# Altium footprint library 基于STM32的DDS信号源电路.PcbLib: 18 footprints (part 1 of 2)
Each footprint in its own frame and in the unit in brackets; x right, y up, seen from the top. Pads: shape width x height; smd on the part's side, far side on the other; paste and mask are expansions set on the pad; w line width, h text height; cw(c..) or ccw(c..) is an arc to the next point about the centre after c.
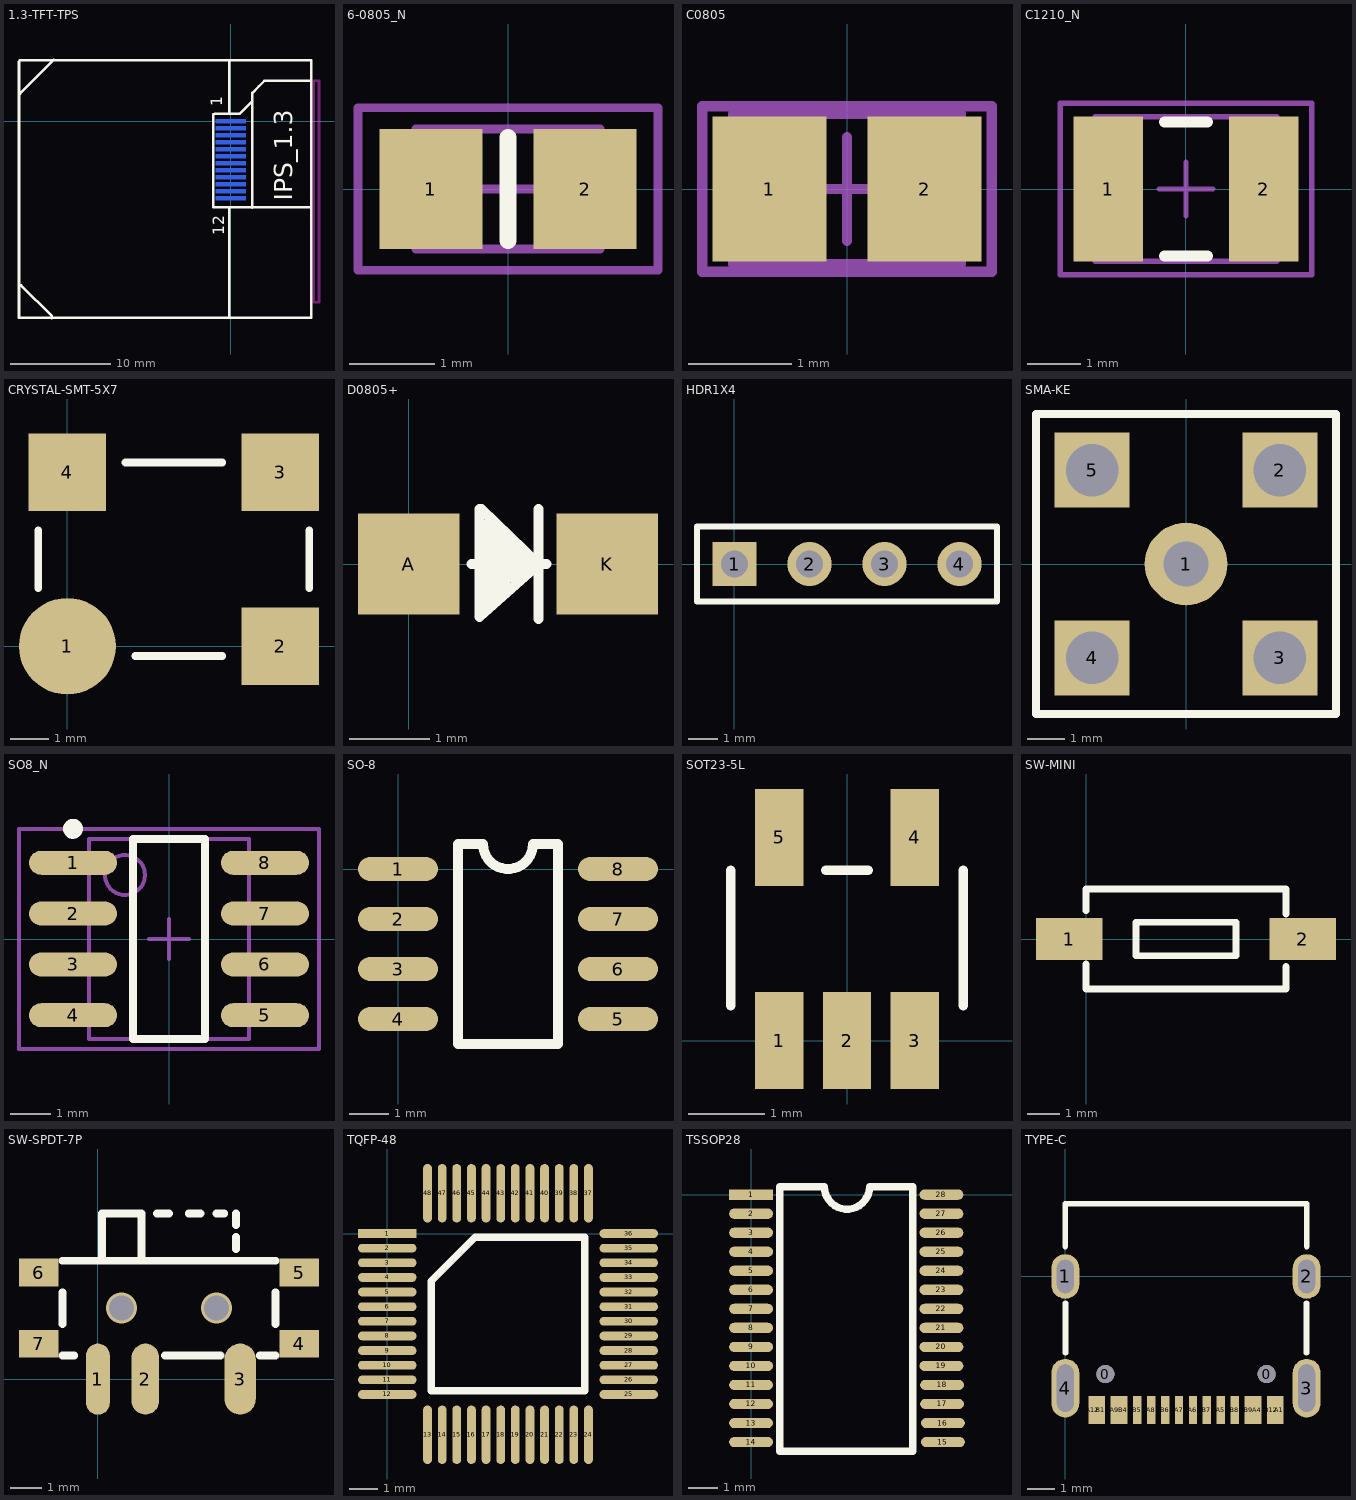
[diagram p0: the footprints below, top view; thin cyan lines are the x and y axes]

## 1.3-TFT-TPS [mm]
height 0.7
pads (12):
  rect 3x0.4 smd far side: 1(0,0) 2(0.008,-0.709) 3(0.008,-1.409) 4(0.008,-2.109) 5(0.008,-2.809) 6(0.008,-3.509) 7(0.008,-4.209) 8(0.008,-4.909) 9(0.008,-5.609) 10(0.008,-6.309) 11(0.008,-7.009) 12(0.008,-7.709)
Top Overlay:
  lines w0.254: -21.219,5.956 -21.219,-19.698 8.059,-19.698 8.059,6.108 -21.143,6.108 ; -21.074,2.755 -21.074,2.832 -17.747,6.159 ; -20.998,-16.447 -17.925,-19.52 -17.925,-19.724 ; -1.745,-8.598 -1.745,0.698 ; -1.618,0.749 0.897,0.749 2.167,2.019 2.167,2.857 2.827,3.517 3.36,4.051 3.462,4.051 ; -1.593,-8.598 1.405,-8.598 ; -0.17,-19.571 -0.17,-9.437 ; -0.17,-9.36 -0.17,-8.675 -0.094,-8.598 8.009,-8.598 ; -0.145,0.774 -0.145,5.93 ; 2.141,-8.675 2.141,2.73 ; 3.462,4.076 8.034,4.076
  text "12" at -0.653,-11.418 h1.14
  text "1" at -0.831,1.511 h1.14
  text "IPS_1.3" at 6.18,-7.938 h1.82
Keep-Out Layer:
  lines w0.254: 8.339,-18.123 8.339,4.051 8.847,4.051 8.847,-18.123 8.339,-18.123

## 6-0805_N [mm] "Chip Resistor, Body 2.0x1.2mm, IPC Medium Density"
height 0.7
pads (2):
  rect 1.2x1.4 smd: 1(-0.9,0) 2(0.9,0)
Top Overlay:
  lines w0.2: 0,-0.6 0,0.6
Mechanical 13:
  lines w0.1: -1.075,-0.7 1.075,-0.7 1.075,0.7 -1.075,0.7 -1.075,-0.7
Mechanical 15:
  lines w0.1: -0.5,0 0.5,0 ; 0,-0.5 0,0.5 ; -1.75,-0.95 1.75,-0.95 1.75,0.95 -1.75,0.95 -1.75,-0.95
3D body: height 0.7, standoff 0, extent -1.075,-0.7 1.075,0.7

## C0805 [mm] "Chip Capacitor, Body 2.0x1.3mm, IPC High Density"
height 1.4
pads (2):
  rect 1.1x1.4 smd: 1(-0.75,0) 2(0.75,0)
Mechanical 13:
  lines w0.1: -1.1,-0.725 1.1,-0.725 1.1,0.725 -1.1,0.725 -1.1,-0.725
Mechanical 15:
  lines w0.1: -0.5,0 0.5,0 ; 0,-0.5 0,0.5 ; -1.4,-0.8 1.4,-0.8 1.4,0.8 -1.4,0.8 -1.4,-0.8
3D body: height 1.4, standoff 0, extent -1.1,-0.725 1.1,0.725

## C1210_N [mm] "Chip Capacitor, Body 3.2x2.5mm, IPC Medium Density"
height 1.5
pads (2):
  rect 1.3x2.7 smd: 1(-1.45,0) 2(1.45,0)
Top Overlay:
  lines w0.2: -0.4,-1.25 0.4,-1.25 ; -0.4,1.25 0.4,1.25
Mechanical 13:
  lines w0.1: -1.7,-1.35 -1.7,1.35 1.7,1.35 1.7,-1.35 -1.7,-1.35
Mechanical 15:
  lines w0.1: -0.5,0 0.5,0 ; 0,-0.5 0,0.5 ; -2.35,-1.6 -2.35,1.6 2.35,1.6 2.35,-1.6 -2.35,-1.6
3D body: height 1.5, standoff 0, extent -1.7,-1.35 1.7,1.35

## CRYSTAL-SMT-5X7 [mil]
height 27.56
pads (4):
  round 100 smd: 1(0,0)
  rect 80x80 smd: 2(220,0) 3(220,180) 4(0,180)
Top Overlay:
  lines w8: -30,60 -30,120 ; 60,190 160,190 ; 70,-10 160,-10 ; 250,60 250,120

## D0805+ [mil]
height 27.56
pads (2):
  rect 50x50 smd: A(0,0) K(98,0)
Top Overlay:
  rectangle: 36,-9 56,10
  rectangle: 37,-14 50,-8
  rectangle: 36,6 43,22
  rectangle: 42,-1 47,18
  rectangle: 36,-22 43,-12
  rectangle: 54,-4 61,6
  rectangle: 46,7 50,14
  rectangle: 41,-17 45,-12
  lines w5: 31,0 33,0 ; 35,27 35,-26 64,0 36,27 ; 63,0 68,0 ; 64,-27 64,27

## HDR1X4 [mm] "Connector; Header; 4 Position"
height 0.7
pads (4):
  rect 1.5x1.5 hole 0.9: 1(0,0)
  round 1.5 hole 0.9: 2(2.54,0) 3(5.08,0) 4(7.62,0)
Top Overlay:
  lines w0.2: -1.27,-1.27 8.89,-1.27 8.89,1.27 -1.27,1.27 -1.27,-1.27

## SMA-KE [mm]
height 0.7
pads (5):
  round 2.2 hole 1.2: 1(0,0)
  rect 2x2 hole 1.4: 2(2.5,2.5) 3(2.5,-2.5) 4(-2.5,-2.5) 5(-2.5,2.5)
Top Overlay:
  lines w0.203: -4,-4 -4,4 -2.5,4 4,4 4,-4 -4,-4

## SO8_N [mm] "SOIC, 8-Leads, Body 4.9x3.9mm, Pitch 1.27mm, IPC Medium Density"
height 1.75
pads (8):
  oval 2.2x0.6 smd: 1(-2.4,1.905) 2(-2.4,0.635) 3(-2.4,-0.635) 4(-2.4,-1.905) 5(2.4,-1.905) 6(2.4,-0.635) 7(2.4,0.635) 8(2.4,1.905)
Top Overlay:
  circle w0.25: c-2.4,2.755 r0.125
  lines w0.2: -0.9,-2.5 0.9,-2.5 0.9,2.5 -0.9,2.5 -0.9,-2.5
Mechanical 13:
  circle w0.1: c-1.1,1.6 r0.5
  lines w0.1: -2,-2.5 2,-2.5 2,2.5 -2,2.5 -2,-2.5
Mechanical 15:
  lines w0.1: -0.5,0 0.5,0 ; 0,-0.5 0,0.5 ; -3.75,-2.75 3.75,-2.75 3.75,2.75 -3.75,2.75 -3.75,-2.75
3D body: height 1.75, standoff 0, extent -2,-2.5 2,2.5

## SO-8 [mil]
height 27.56
pads (8):
  oval 80x24 smd: 1(0,0) 2(0,-50) 3(0,-100) 4(0,-150) 5(220,-150) 6(220,-100) 7(220,-50) 8(220,0)
Top Overlay:
  lines w10: 60,-175 60,25 85,25 ccw(c110,25) 135,25 160,25 160,-175 60,-175

## SOT23-5L [mil]
height 27.56
pads (5):
  rect 25x50 smd: 1(-35,0) 2(0,0) 3(35,0) 4(35,105) 5(-35,105)
Top Overlay:
  lines w5: -60,18 -60,88 ; -11,88 11,88 ; 60,18 60,88

## SW-MINI [mil]
pads (2):
  rect 80x50 smd: 1(-20,0) 2(260,0)
Top Overlay:
  lines w8: 0,-30 0,-60 240,-60 240,-33 ; 0,34 0,60 240,60 240,48 240,30 ; 60,-20 60,20 180,20 180,-20 60,-20

## SW-SPDT-7P [mil]
height 27.56
pads (7):
  oval 30x90 smd: 1(0,0)
  oval 35x90 smd: 2(60,0)
  oval 40x90 smd: 3(180,0)
  rect 50x35 smd: 4(255,45) 5(255,135) 6(-75,135) 7(-75,45)
via 150,90 diameter 39.37 hole 31.5
via 30,90 diameter 39.37 hole 31.5
Top Overlay:
  lines w10: -45,30 -30,30 ; -45,70 -45,110 ; -45,150 225,150 ; 5,155 5,210 55,210 55,150 ; 75,210 90,210 ; 85,30 155,30 ; 115,210 130,210 ; 150,210 160,210 ; 175,165 175,180 ; 175,195 175,210 ; 205,30 225,30 ; 225,70 225,110

## TQFP-48 [mil]
height 27.56
pads (48):
  rect 80x12 smd: 1(0,0)
  oval 80x12 smd: 2(0,-20) 3(0,-40) 4(0,-60) 5(0,-80) 6(0,-100) 7(0,-120) 8(0,-140) 9(0,-160) 10(0,-180) 11(0,-200) 12(0,-220) 25(330,-220) 26(330,-200) 27(330,-180) 28(330,-160) 29(330,-140) 30(330,-120) 31(330,-100) 32(330,-80) 33(330,-60) 34(330,-40) 35(330,-20) 36(330,0)
  oval 12x80 smd: 13(55,-275) 14(75,-275) 15(95,-275) 16(115,-275) 17(135,-275) 18(155,-275) 19(175,-275) 20(195,-275) 21(215,-275) 22(235,-275) 23(255,-275) 24(275,-275) 37(275,55) 38(255,55) 39(235,55) 40(215,55) 41(195,55) 42(175,55) 43(155,55) 44(135,55) 45(115,55) 46(95,55) 47(75,55) 48(55,55)
Top Overlay:
  lines w10: 60,-215 60,-65 120,-5 270,-5 270,-215 60,-215

## TSSOP28 [mm]
height 0.7
pads (28):
  rect 1.5x0.35 smd: 1(0,0)
  oval 1.5x0.35 smd: 2(0,-0.65) 3(0,-1.3) 4(0,-1.95) 5(0,-2.6) 6(0,-3.25) 7(0,-3.9) 8(0,-4.55) 9(0,-5.2) 10(0,-5.85) 11(0,-6.5) 12(0,-7.15) 13(0,-7.8) 14(0,-8.45) 15(6.55,-8.45) 16(6.55,-7.8) 17(6.525,-7.15) 18(6.525,-6.5) 19(6.5,-5.85) 20(6.5,-5.2) 21(6.5,-4.55) 22(6.5,-3.9) 23(6.5,-3.25) 24(6.5,-2.6) 25(6.5,-1.95) 26(6.5,-1.3) 27(6.5,-0.65) 28(6.5,0)
Top Overlay:
  lines w0.254: 0.975,-8.763 0.975,0.275 2.503,0.275 ccw(c3.275,0.275) 4.047,0.275 5.525,0.275 5.525,-8.763 0.975,-8.763

## TYPE-C [mm]
height 0.7
pads (22):
  round 0.65 hole 0.65: 0(1.435,-3.5) 0(7.215,-3.5)
  oval 1x1.6 hole 0.6 slot 1.2 at 90 deg: 1(0,0) 2(8.65,0)
  oval 1x2.1 hole 0.6 slot 1.7 at 90 deg: 3(8.65,-4) 4(0,-4)
  rect 0.3x1 smd: A1(7.675,-4.79) A4(6.875,-4.79) A5(5.575,-4.79) A6(4.575,-4.79) A7(4.075,-4.79) A8(3.075,-4.79) A9(1.775,-4.79) A12(0.975,-4.79) B1(1.275,-4.79) B4(2.075,-4.79) B5(2.575,-4.79) B6(3.575,-4.79) B7(5.075,-4.79) B8(6.075,-4.79) B9(6.575,-4.79) B12(7.375,-4.79)
Top Overlay:
  lines w0.203: 0,1.071 0,2.6 8.65,2.6 8.65,1.071 ; 0.007,-2.739 0.007,-0.961 ; 8.643,-2.739 8.643,-0.961